# Altium schematic symbol library PhaseShifters.SchLib: 6 symbols
Pins are listed as number, name and electrical type; pins without a type are passive.

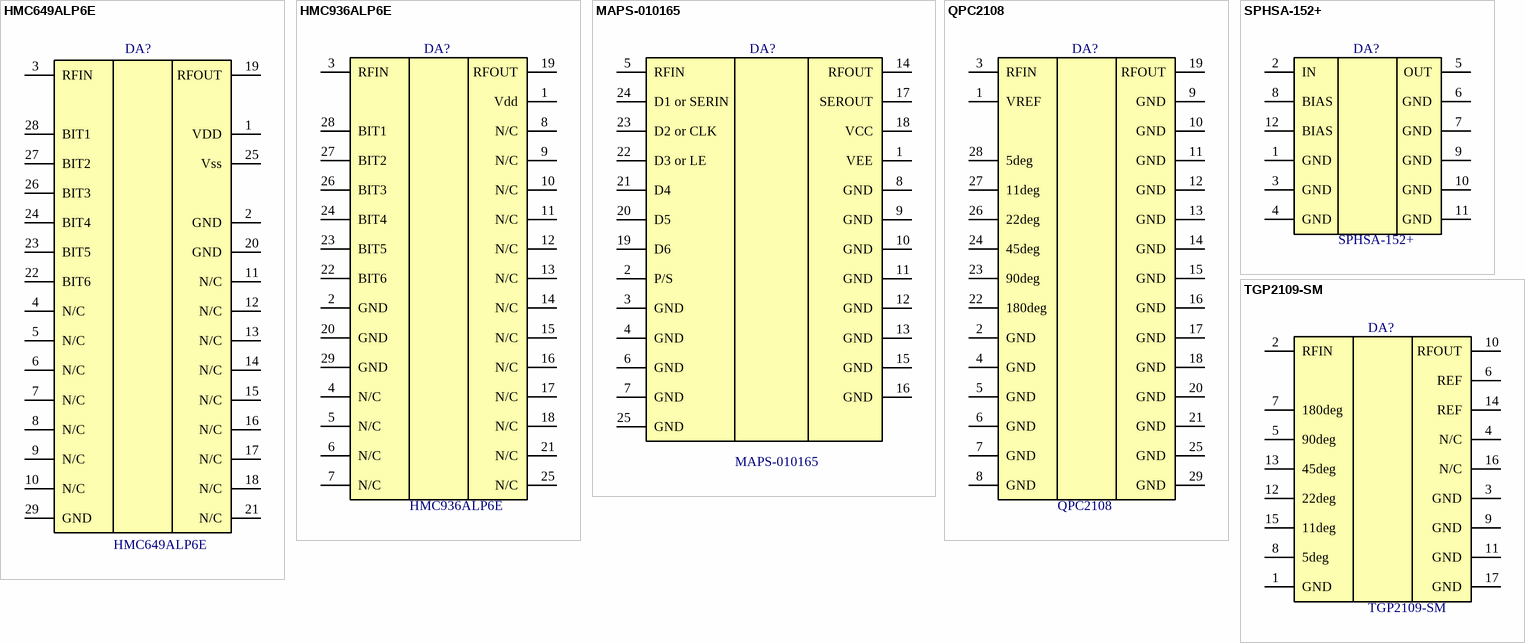
[diagram p0: symbols HMC649ALP6E to TGP2109-SM]

## HMC649ALP6E
designator DA?
GaAs MMIC 6-BIT DIGITAL  PHASE SHIFTER, 3 - 6 GHz; Manufacturer: Analog Devices; PartNumber: HMC649ALP6E; ComponentLink1Description: Product Page; ComponentLink1URL: https://www.analog.com/en/products/hmc649a.html; ComponentLink2Description: DataSheet; ComponentLink2URL: https://www.analog.com/media/en/technical-documentation/data-sheets/hmc649a.pdf
footprint QFN29P65_600X600X100L40X32T470N (Quad Flat No-Lead (QFN with Tab), 0.65 mm pitch; square, 7 pin X 7 pin, 6.00 mm L X 6.00 mm W X 1.00 mm H body)
pins: 1 VDD, 2 GND, 3 RFIN, 4 N/C, 5 N/C, 6 N/C, 7 N/C, 8 N/C, 9 N/C, 10 N/C, 11 N/C, 12 N/C, 13 N/C, 14 N/C, 15 N/C, 16 N/C, 17 N/C, 18 N/C, 19 RFOUT, 20 GND, 21 N/C, 22 BIT6, 23 BIT5, 24 BIT4, 25 Vss, 26 BIT3, 27 BIT2, 28 BIT1, 29 GND

## HMC936ALP6E
designator DA?
GaAs MMIC 6 BIT DIGITAL PHASE SHIFTERS, 1.2 - 1.4 GHz; Manufacturer: Analog Devices; PartNumber: HMC936ALP6E; ComponentLink1Description: Product Page; ComponentLink1URL: https://www.analog.com/en/products/hmc936a.html; ComponentLink2Description: DataSheet; ComponentLink2URL: https://www.analog.com/media/en/technical-documentation/data-sheets/hmc936a.pdf
footprint QFN29P65_600X600X100L40X32T470N (Quad Flat No-Lead (QFN with Tab), 0.65 mm pitch; square, 7 pin X 7 pin, 6.00 mm L X 6.00 mm W X 1.00 mm H body)
pins: 1 Vdd, 2 GND, 3 RFIN, 4 N/C, 5 N/C, 6 N/C, 7 N/C, 8 N/C, 9 N/C, 10 N/C, 11 N/C, 12 N/C, 13 N/C, 14 N/C, 15 N/C, 16 N/C, 17 N/C, 18 N/C, 19 RFOUT, 20 GND, 21 N/C, 22 BIT6, 23 BIT5, 24 BIT4, 25 N/C, 26 BIT3, 27 BIT2, 28 BIT1, 29 GND

## MAPS-010165
designator DA?
Digital Phase Shifter 6-Bit, 3.5 - 6.0 GHz; Manufacturer: MACOM; PartNumber: MAPS-010165; ComponentLink1Description: Product Page; ComponentLink1URL: https://www.macom.com/products/product-detail/MAPS-010165; ComponentLink2Description: DataSheet; ComponentLink2URL: https://cdn.macom.com/datasheets/MAPS-010165.pdf
footprint QFN25P50_400X400X100L40X24T245N (Quad Flat No-Lead (QFN with Tab), 0.50 mm pitch; square, 6 pin X 6 pin, 4.00 mm L X 4.00 mm W X 1.00 mm H body)
pins: 1 VEE, 2 P/S, 3 GND, 4 GND, 5 RFIN, 6 GND, 7 GND, 8 GND, 9 GND, 10 GND, 11 GND, 12 GND, 13 GND, 14 RFOUT, 15 GND, 16 GND, 17 SEROUT, 18 VCC, 19 D6, 20 D5, 21 D4, 22 D3 or LE, 23 D2 or CLK, 24 D1 or SERIN, 25 GND

## QPC2108
designator DA?
2.5-4GHz 6-Bit Digital Phase Shifter; Manufacturer: Qorvo; PartNumber: QPC2108; ComponentLink1Description: Product Page; ComponentLink1URL: https://www.qorvo.com/products/p/QPC2108; ComponentLink2Description: DataSheet; ComponentLink2URL: https://www.qorvo.com/products/d/da006118
footprint PQFN29P65_600X600X84L32X30T470N (Pullback Quad Flat No-Lead (PQFN with Tab), 0.65 mm pitch; square, 7 pin X 7 pin, 6.00 mm L X 6.00 mm W X 0.845 mm H body)
pins: 1 VREF, 2 GND, 3 RFIN, 4 GND, 5 GND, 6 GND, 7 GND, 8 GND, 9 GND, 10 GND, 11 GND, 12 GND, 13 GND, 14 GND, 15 GND, 16 GND, 17 GND, 18 GND, 19 RFOUT, 20 GND, 21 GND, 22 180deg, 23 90deg, 24 45deg, 25 GND, 26 22deg, 27 11deg, 28 5deg, 29 GND

## SPHSA-152+
designator DA?
Phase Shifter 50Ω 360° Voltage Variable 800 to 1500 MHz; Manufacturer: Mini-Circuits; PartNumber: SPHSA-152+; ComponentLink1Description: Product Page; ComponentLink1URL: https://www.minicircuits.com/WebStore/dashboard.html?model=SPHSA-152%2B; ComponentLink2Description: DataSheet; ComponentLink2URL: https://www.minicircuits.com/WebStore/dashboardPdf?model=SPHSA-152%2B
footprint JW1441 (Mini-circuit JW1441)
pins: 1 GND, 2 IN, 3 GND, 4 GND, 5 OUT, 6 GND, 7 GND, 8 BIAS, 9 GND, 10 GND, 11 GND, 12 BIAS

## TGP2109-SM
designator DA?
8-12 6-Bit Digital Phase Shifter; Manufacturer: Qorvo; PartNumber: TGP2109-SM; ComponentLink1Description: Product Page; ComponentLink1URL: https://www.qorvo.com/products/p/TGP2109-SM; ComponentLink2Description: DataSheet; ComponentLink2URL: https://www.qorvo.com/products/d/da005089
footprint TGP2109-SM (Qorvo TGP2109-SM)
pins: 1 GND, 2 RFIN, 3 GND, 4 N/C, 5 90deg, 6 REF, 7 180deg, 8 5deg, 9 GND, 10 RFOUT, 11 GND, 12 22deg, 13 45deg, 14 REF, 15 11deg, 16 N/C, 17 GND